# EAGLE library part MAX31855KASA (library RitLaunchInitiative)
The MAX31855 performs cold-junction compensation and digitizes the signal from a K-, J-, N-, T-, S-, R-, or E-type thermocouple. The data is output in a signed 14-bit, SPI-compatible, read-only format. This converter resolves temperatures to 0.25°C, allows readings as high as +1800°C and as low as -270°C, and exhibits thermocouple accuracy of ±2°C for temperatures ranging from -200°C to +700°C for K-type thermocouples.
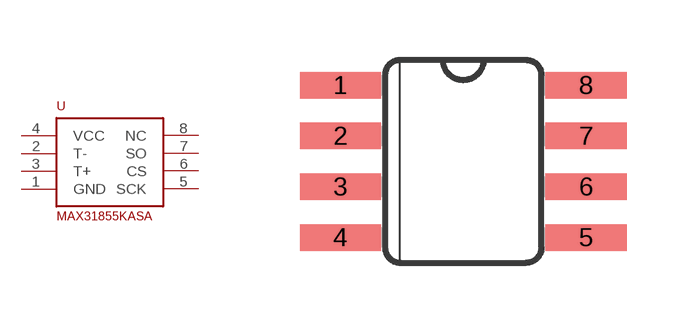
[diagram p1: symbol with the pads of SO08; footprint SO08]

Designator prefix -

## MAX31855KASA (DATASHEET_LINK: http://datasheets.maximintegrated.com/en/ds/MAX31855.pdf; DIGIKEY_PART_NUMBER: MAX31855KASA+TCT-ND)  [SO08]
1  GND
2  T-
3  T+
4  VCC
5  SCK
6  CS
7  SO
8  NC

## Footprint SO08 (pad centres in mm)
smd 2.032 x 0.66: 1 -3.073,1.905; 2 -3.073,0.635; 3 -3.073,-0.635; 4 -3.073,-1.905; 5 3.073,-1.905; 6 3.073,-0.635; 7 3.073,0.635; 8 3.073,1.905